# Altium schematic symbol library imx8mnano.SchLib: 59 symbols (part 1 of 2)
Pins are listed as number, name and electrical type; pins without a type are passive.

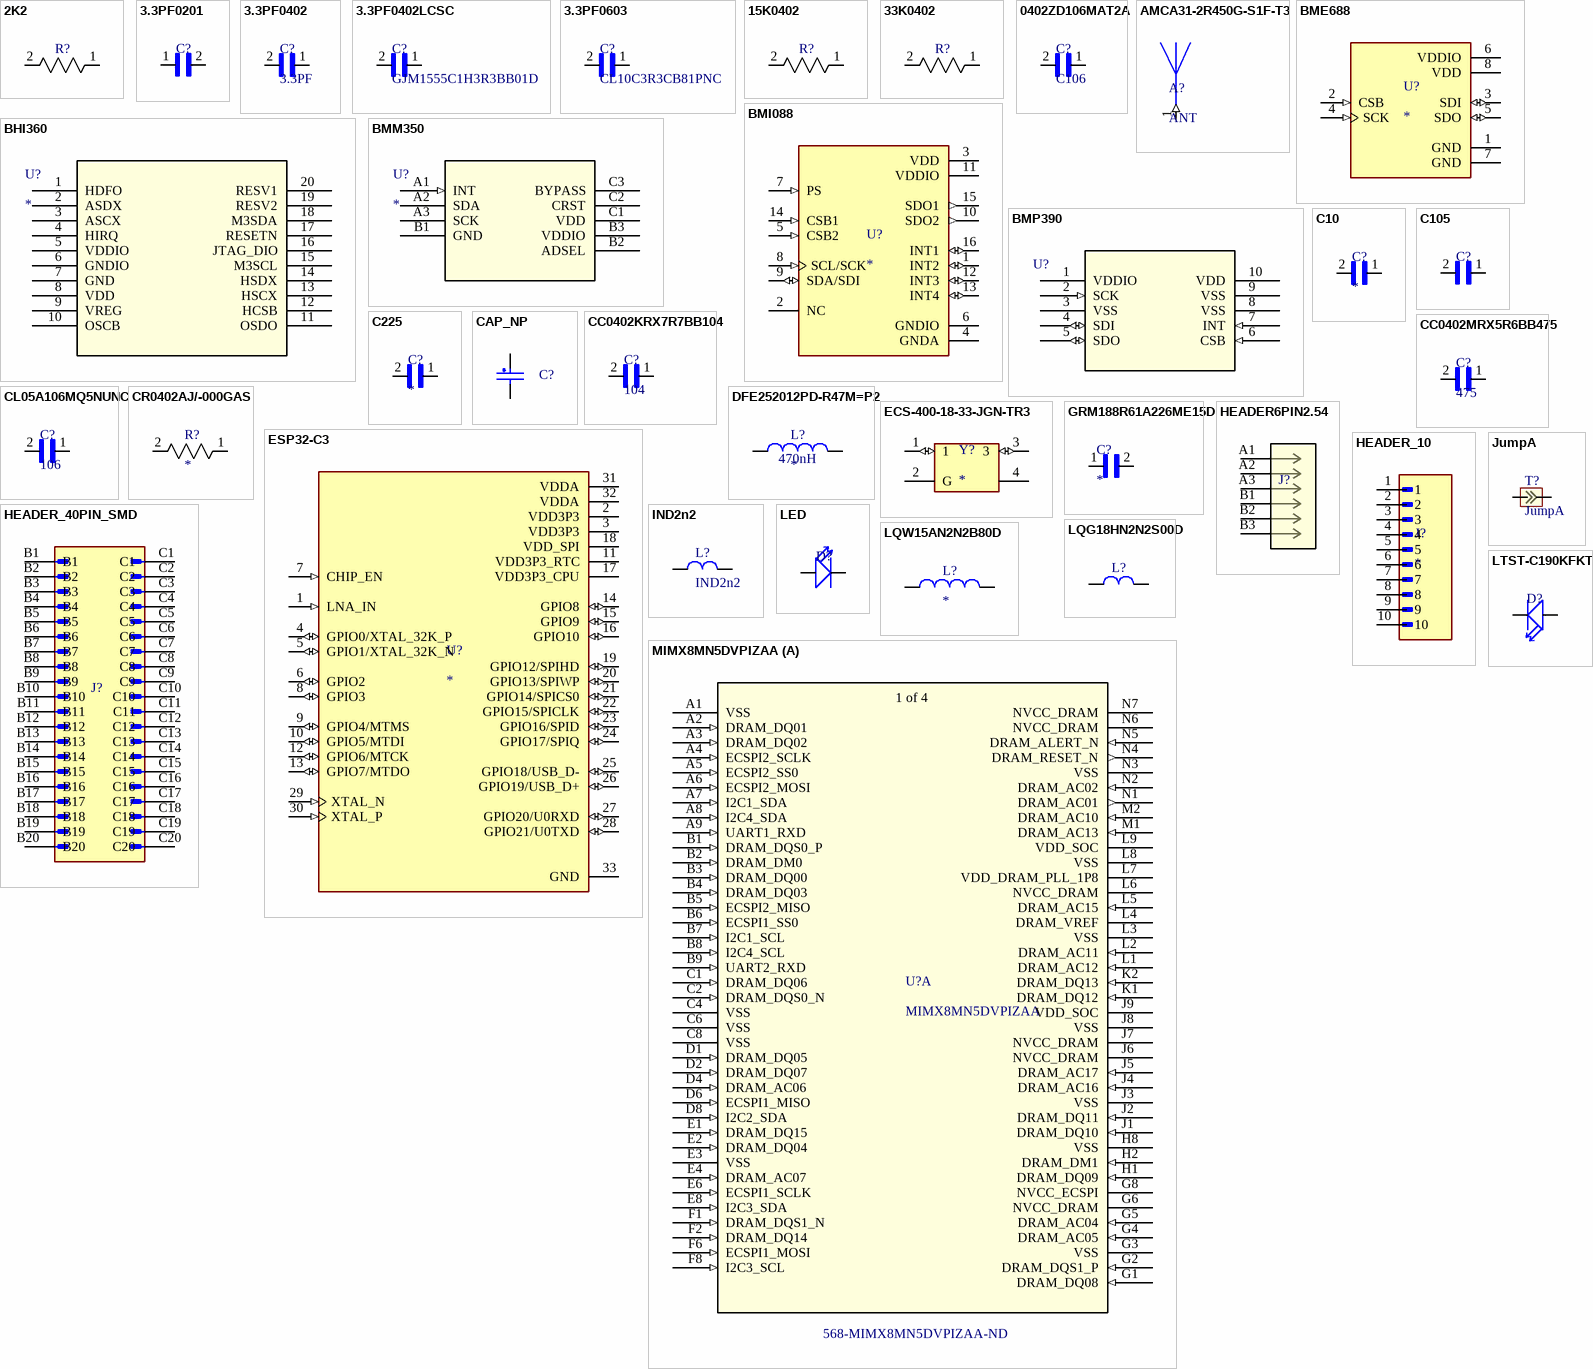
[diagram p0: symbols 2K2 to MIMX8MN5DVPIZAA]

## 2K2
designator R?, comment ERA-2AEB202X  (value not drawn)
Res Thin Film 0402 2K Ohm 0.1% 0.063W ±25ppm/°C Molded SMD Punched Carrier T/R; Manufacturer: Panasonic; Resistance: 2kR; Power Rating: 63mW; Voltage Rating: 25V; Supplier 1: Digikey; Manufacturer Part Number: ERA-2AEB202X; RoHS: Yes; Category: Chip SMD Resistors; Stock 1: 90625; Pricing 1: 1=0.1, 10=0.082, 50=0.0716, 100=0.0677, 500=0.05944, 1000=0.05637, 5000=0.05032 (USD); Mount: Surface Mount; Case/Package: 0402; Case Code (Metric): 1005; Case Code (Imperial): 0402; Contact Plating: Tin; Size Code: 0402; Min Operating Temperature: -55°C; Max Operating Temperature: 155°C; Tolerance: 0.1%; Packaging: Tape and Reel; Package Quantity: 1; Resistor Type: Thin Film,Metal Film; Number of Terminations: 2; Termination: SMD/SMT; Temperature Coefficient: 25ppm/°C; Max Power Dissipation: 63mW; Features: Automotive AEC-Q200; Series: ERA-2A; Resistance Tolerance: 0.1%; Technology: THIN FILM; Length: 1mm; Width: 0.5mm; Height: 0.35mm; Depth: 0.5mm; Radiation Hardening: No; Reach SVHC Compliant: No; Lead Free: Lead Free; RoHS Compliant: Yes; ComponentLink1URL: https://datasheet.ciiva.com/43470/1776116-43470486.pdf?src-supplier=Farnell; ComponentLink1Description: https://datasheet.ciiva.com/43470/1776116-43470486.pdf?src-supplier=Farnell; ComponentLink2URL: https://datasheet.ciiva.com/9116/aoa0000ce26-9116653.pdf?src-supplier=Avnet; ComponentLink2Description: https://datasheet.ciiva.com/9116/aoa0000ce26-9116653.pdf?src-supplier=Avnet; ComponentLink3URL: https://datasheet.ciiva.com/9197/aoa0000ce26-9197535.pdf?src-supplier=Avnet; ComponentLink3Description: https://datasheet.ciiva.com/9197/aoa0000ce26-9197535.pdf?src-supplier=Avnet; Supplier Part Number 1: P2.0KDCCT-ND
footprint RC0402X
pins: 1, 2

## 3.3PF0201
designator C?, comment GRM0335C1E3R3BA01D  (value not drawn)
Multilayer Ceramic Capacitor, 3.3 pF, 25 V, ± 0.1pF, C0G (NP0), 0201 [0603 Metric]; Manufacturer: Murata; Capacitance: 3.3pF; Voltage Rating: 25V; Supplier 1: Digikey; Manufacturer Part Number: GRM0335C1E3R3BA01D; RoHS: Yes; Category: Ceramic Capacitors; Stock 1: 342640; Pricing 1: 1=0.1, 10=0.018, 100=0.0098, 1000=0.00587, 2500=0.00466, 5000=0.0039 (USD); Mount: Surface Mount; Case/Package: 0201; Case Code (Metric): 0603; Case Code (Imperial): 0201; Min Operating Temperature: -55°C; Max Operating Temperature: 125°C; Packaging: Tape and Reel; Package Quantity: 15000; Voltage Rating (DC): 25V; Dielectric: C0G; Termination: SMD/SMT; Series: GRM; Length: 0.024inch; Width: 0.012inch; Height: 0.3mm; Thickness: 0.013inch; RoHS Compliant: Yes; ComponentLink1URL: https://datasheet.ciiva.com/29538/grm0335c1e3r3ba01-01-29538647.pdf?src-supplier=Digikey; ComponentLink1Description: https://datasheet.ciiva.com/29538/grm0335c1e3r3ba01-01-29538647.pdf?src-supplier=Digikey; Supplier Part Number 1: 490-11296-1-ND
footprint CAPC0603X33N
pins: 1, 2

## 3.3PF0402
designator C?, comment 3.3PF
Ceramic Capacitor, Multilayer, Ceramic, 200V, 3.0304% +Tol, 3.0304% -Tol, C0G, 30ppm/Cel TC, 0.0000033uF, Surface...; Manufacturer: Kyocera AVX; Manufacturer Part Number: 600L3R3BT200T4K; Supplier 1: Digikey; RoHS: No; Category: Ceramic Capacitors; Stock 1: 71532; Pricing 1: 1=0.87, 10=0.553, 100=0.3891, 1000=0.30349 (USD); ComponentLink1URL: https://datasheet.octopart.com/600L3R3BT200T4K-KYOCERA-AVX-datasheet-158804398.pdf?src-supplier=Future+Electronics; ComponentLink1Description: https://datasheet.octopart.com/600L3R3BT200T4K-KYOCERA-AVX-datasheet-158804398.pdf?src-supplier=Future+Electronics; Supplier Part Number 1: 478-600L3R3BT200T4KCT-ND
footprint CAPC1005X55N2
pins: 1, 2

## 3.3PF0402LCSC
designator C?, comment GJM1555C1H3R3BB01D
Multilayer Ceramic Capacitors MLCC - SMD/SMT 0402 3.3pF 50Volts C0G +/-0.1pF; Manufacturer: Murata; Manufacturer Part Number: C76906; Voltage Rating: 50V; Temperature Coefficient: 30ppm/°C; Supplier 1: Digikey; RoHS: Yes; Category: Ceramic Capacitors; Stock 1: 2577; Pricing 1: 1=0.12, 10=0.065, 100=0.039, 1000=0.02419, 2500=0.02076, 5000=0.02051 (USD); Mount: Surface Mount; Case/Package: 0402; Number of Pins: 2; Case Code (Metric): 1005; Case Code (Imperial): 0402; Material: Ceramic; Min Operating Temperature: -55°C; Max Operating Temperature: 125°C; Capacitance: 3.3pF; Package Quantity: 1; Packaging: Tape and Reel; Voltage Rating (DC): 50V; Dielectric: C0G; Termination: SMD/SMT; Voltage: 50V; Series: GJM; Construction: Flat; Length: 1mm; Width: 0.5mm; Height: 0.5mm; Thickness: 0.022inch; Depth: 0.5mm; Lead Pitch: 0.3mm; Radiation Hardening: No; Reach SVHC Compliant: No; Lead Free: Lead Free; RoHS Compliant: Yes; ComponentLink1URL: https://datasheet.ciiva.com/11614/product-11614199.pdf?src-supplier=Avnet; ComponentLink1Description: https://datasheet.ciiva.com/11614/product-11614199.pdf?src-supplier=Avnet; ComponentLink2URL: https://datasheet.ciiva.com/8030/1700175-8030120.pdf?src-supplier=Element14; ComponentLink2Description: https://datasheet.ciiva.com/8030/1700175-8030120.pdf?src-supplier=Element14; Supplier Part Number 1: 490-8097-1-ND
footprint RC0402
pins: 1, 2

## 3.3PF0603
designator C?, comment CL10C3R3CB81PNC
Cap Ceramic 3.3pF 50V C0G 0.25pF SMD 0603 125°C Cardboard T/R; Manufacturer: Samsung; Supplier 1: Digikey; Manufacturer Part Number: CL10C3R3CB81PNC; RoHS: Yes; Category: Ceramic Capacitors; Stock 1: 151654; Pricing 1: 1=0.1, 10=0.042, 100=0.0247, 1000=0.01575 (USD); Mount: Surface Mount; Case/Package: 0603; Case Code (Metric): 1608; Case Code (Imperial): 0603; Min Operating Temperature: -55°C; Max Operating Temperature: 125°C; Packaging: Cut Tape; Capacitance: 3.3pF; Voltage Rating: 50V; Series: CL; Length: 0.063inch; Width: 0.031inch; Thickness: 0.035inch; Ratings: AEC-Q200; RoHS Compliant: Yes; ComponentLink1URL: http://www.samsungsem.com/kr/support/product-search/mlcc/CL10C3R3CB81PNC.jsp?src-supplier=Digikey; ComponentLink1Description: http://www.samsungsem.com/kr/support/product-search/mlcc/CL10C3R3CB81PNC.jsp?src-supplier=Digikey; ComponentLink2URL: http://www.samsungsem.com/kr/support/library/product-catalog/mlcc.jsp?src-supplier=Digikey; ComponentLink2Description: http://www.samsungsem.com/kr/support/library/product-catalog/mlcc.jsp?src-supplier=Digikey; Supplier Part Number 1: 1276-6549-1-ND
pins: 1, 2

## 15K0402
designator R?  (value not drawn)
Res Thin Film 0402 15K Ohm 0.1% 0.063W(1/16W) ±25ppm/C Pad SMD T/R; Manufacturer: Yageo; Manufacturer Part Number: RT0402BRD0715KL; Voltage Rating: 50V; Resistance: 15kR; Power Rating: 62.5mW; Max Power Dissipation: 63mW; Temperature Coefficient: 25ppm/°C; Supplier 1: Digikey; RoHS: Yes; Category: Chip SMD Resistors; Stock 1: 36293; Pricing 1: 1=0.17, 10=0.116, 50=0.1, 100=0.0877, 500=0.06834, 1000=0.06018, 5000=0.04488 (USD); Case/Package: 0402; Case Code (Imperial): 0402; Case Code (Metric): 1005; Size Code: 0402; Min Operating Temperature: -55°C; Max Operating Temperature: 155°C; Tolerance: 0.1%; Number of Terminations: 2; Termination: SMD/SMT; Voltage Rating (DC): 50V; Features: Moisture Resistant; Packaging: Tape and Reel; Package Quantity: 10000; Series: RT; Length: 0.039inch; Width: 0.02inch; Height: 0.014inch; Lead Free: Lead Free; RoHS Compliant: Yes; ComponentLink1URL: https://datasheet.ciiva.com/2582/pyu-rt-1-to-0-05-rohs-l-5-2582151.pdf?src-supplier=Digikey; ComponentLink1Description: https://datasheet.ciiva.com/2582/pyu-rt-1-to-0-05-rohs-l-5-2582151.pdf?src-supplier=Digikey; ComponentLink2URL: https://datasheet.ciiva.com/12723/pyu-rt-1-to-0-05-rohs-l-4-12723782.pdf?src-supplier=Mouser; ComponentLink2Description: https://datasheet.ciiva.com/12723/pyu-rt-1-to-0-05-rohs-l-4-12723782.pdf?src-supplier=Mouser; Supplier Part Number 1: YAG2302CT-ND
footprint RC0402X
pins: 1, 2

## 33K0402
designator R?  (value not drawn)
SMD Chip Resistor, 33 Kohm, ½ 5%, 62.5 Mw, 0402 [1005 Metric], Thick Film, General Purpose; Manufacturer: Yageo; Manufacturer Part Number: C138003; Resistance: 33kR; Power Rating: 62.5mW; Voltage Rating: 50V; Temperature Coefficient: 100ppm/°C; Max Power Dissipation: 63mW; Supplier 1: Digikey; RoHS: Yes; Category: Chip SMD Resistors; Stock 1: 242382; Pricing 1: 1=0.1, 10=0.007, 50=0.0066, 100=0.0061, 500=0.0051, 1000=0.00408, 5000=0.00306 (USD); Case/Package: 0402; Case Code (Imperial): 0402; Case Code (Metric): 1005; Min Operating Temperature: -55°C; Max Operating Temperature: 155°C; Tolerance: 5%; Packaging: Tape and Reel; Termination: SMD/SMT; Resistor Type: Thick Film; Number of Terminations: 2; Features: Moisture Resistant; Series: RC; Resistance Tolerance: 5%; Voltage Rating (AC): 50V; Working Voltage: 50V; Construction: Rectangular; Technology: THICK FILM; Length: 1mm; Depth: 0.5mm; Reach SVHC Compliant: No; Lead Free: Lead Free; RoHS Compliant: Yes; Military Standard: Not; ComponentLink1URL: https://datasheet.ciiva.com/16740/pyu-rc0402-51-rohs-l-6-r-16740743.pdf?src-supplier=Future+Electronics; ComponentLink1Description: https://datasheet.ciiva.com/16740/pyu-rc0402-51-rohs-l-6-r-16740743.pdf?src-supplier=Future+Electronics; ComponentLink2URL: https://datasheet.ciiva.com/7983/1018594-7983578.pdf?src-supplier=Element14; ComponentLink2Description: https://datasheet.ciiva.com/7983/1018594-7983578.pdf?src-supplier=Element14; ComponentLink3URL: https://datasheet.ciiva.com/7850/1018594-7850198.pdf?src-supplier=Element14; ComponentLink3Description: https://datasheet.ciiva.com/7850/1018594-7850198.pdf?src-supplier=Element14; ComponentLink4URL: https://datasheet.ciiva.com/7850/1018594-7850199.pdf?src-supplier=Element14; ComponentLink4Description: https://datasheet.ciiva.com/7850/1018594-7850199.pdf?src-supplier=Element14; ComponentLink5URL: https://datasheet.ciiva.com/5558/pyu-rc0402-51-rohs-l-6-r-5558154.pdf?src-supplier=Mouser; ComponentLink5Description: https://datasheet.ciiva.com/5558/pyu-rc0402-51-rohs-l-6-r-5558154.pdf?src-supplier=Mouser; Supplier Part Number 1: 311-33KJRCT-ND
footprint RC0402X
pins: 1, 2

## 0402ZD106MAT2A
designator C?, comment C106
Multilayer Ceramic Chip Capacitor 0402 Size 10uF 10V X5R ±20% Tolerance SMD T/R; Manufacturer: Kyocera AVX; Manufacturer Part Number: 0402ZD106MAT2A; Material: 4241ConductorMaterial; Supplier 1: Digikey; RoHS: Yes; Category: Ceramic Capacitors; Stock 1: 61749; Pricing 1: 1=0.36, 10=0.212, 100=0.1271, 1000=0.0834, 2500=0.07583 (USD); Mount: Surface Mount; Case/Package: 0402; Case Code (Imperial): 0402; Case Code (Metric): 1005; Min Operating Temperature: -55°C; Max Operating Temperature: 85°C; Series: -; Packaging: Cut Tape; Dielectric: X5R; Voltage Rating (DC): 10V; Capacitance: 10uF; Tolerance: 20%; Voltage Rating: 10V; Height: 710um; RoHS Compliant: Yes; ComponentLink1URL: http://catalogs.avx.com/SurfaceMount.pdf?src-supplier=Digikey; ComponentLink1Description: http://catalogs.avx.com/SurfaceMount.pdf?src-supplier=Digikey; ComponentLink2URL: http://datasheets.avx.com/cx5r.pdf?src-supplier=Digikey; ComponentLink2Description: http://datasheets.avx.com/cx5r.pdf?src-supplier=Digikey; ComponentLink3URL: https://datasheet.octopart.com/0402ZD106MAT2A-KYOCERA-AVX-datasheet-155912759.pdf?src-supplier=Future+Electronics; ComponentLink3Description: https://datasheet.octopart.com/0402ZD106MAT2A-KYOCERA-AVX-datasheet-155912759.pdf?src-supplier=Future+Electronics; ComponentLink4URL: https://www.farnell.com/datasheets/2260752.pdf?src-supplier=Newark; ComponentLink4Description: https://www.farnell.com/datasheets/2260752.pdf?src-supplier=Newark; ComponentLink5URL: https://datasheet.octopart.com/0402ZD106MAT2A-KYOCERA-AVX-datasheet-155912759.pdf?src-supplier=TME; ComponentLink5Description: https://datasheet.octopart.com/0402ZD106MAT2A-KYOCERA-AVX-datasheet-155912759.pdf?src-supplier=TME; Supplier Part Number 1: 478-KGM05CR51A106MHCT-ND
footprint RC0402
pins: 1, 2

## AMCA31-2R450G-S1F-T3
designator A?, comment ANT
Chip Dielectric Antenna; 1dBi; 2450MHz; T/R | Abracon AMCA31-2R450G-S1F-T3; Impedance: 50R; Frequency: 2.45GHz; Bandwidth: 90MHz; Power Rating: 3W; Number of Bands: 1; VSWR: 2; Supplier 1: Digikey; Manufacturer: Abracon; Manufacturer Part Number: AMCA31-2R450G-S1F-T3; RoHS: Yes; Category: RF Antennas; Stock 1: 40750; Pricing 1: 1=0.31, 10=0.217, 25=0.1924, 100=0.1875, 250=0.18412, 500=0.17502, 1000=0.15693 (USD); Mount: Surface Mount; Case/Package: SMD/SMT; Packaging: Tape and Reel; Package Quantity: 3000; Max Power Dissipation: 3W; Termination: Solder; Max Frequency: 2.45GHz; Series: AMCA; Height: 0.047inch; RoHS Compliant: Yes; ComponentLink1URL: https://datasheet.ciiva.com/29647/amca31-2r450g-s1f-t-29647350.pdf?src-supplier=Digikey; ComponentLink1Description: https://datasheet.ciiva.com/29647/amca31-2r450g-s1f-t-29647350.pdf?src-supplier=Digikey; Supplier Part Number 1: 535-14095-1-ND
footprint XDCR_AMCA31-2R450G-S1F-T3
pins: 1 (in)

## BHI360
designator U?
No Description Available; Mfr_Name: Bosch Sensortec; Type: Motion Sensors; RefDes: RefDes
footprint LGA20_2p5X3X0p95_BOS
pins: 1 HDFO, 2 ASDX, 3 ASCX, 4 HIRQ, 5 VDDIO (power), 6 GNDIO (power), 7 GND (power), 8 VDD (power), 9 VREG, 10 OSCB, 11 OSDO, 12 HCSB, 13 HSCX, 14 HSDX, 15 M3SCL, 16 JTAG_DIO, 17 RESETN, 18 M3SDA, 19 RESV2, 20 RESV1

## BME688
designator U?
Gas sensor measuring relative humidity, barometric pressure, ambient temperature and gas (VOC); MP: BME688; Package: None; Price: None; Availability: Unavailable; Value: *
footprint IC_BME688
pins: 1 GND (power), 2 CSB (in), 3 SDI (io), 4 SCK (in), 5 SDO (io), 6 VDDIO (power), 7 GND (power), 8 VDD (power)

## BMI088
designator U?
High-performance 6-axis inertial sensor (accelerometer + gyroscope) <a href="https://pricing.snapeda.com/parts/BMI088/Bosch%20Sensortec/view-part?ref=eda">Check prices</a>; MP: BMI088; Package: None; Value: *; Availability: Unavailable; Price: None
footprint PQFN50P450X300X100-16N
pins: 1 INT2 (io), 2 NC, 3 VDD (power), 4 GNDA (power), 5 CSB2 (in), 6 GNDIO (power), 7 PS (in), 8 SCL/SCK (in), 9 SDA/SDI (io), 10 SDO2 (out), 11 VDDIO (power), 12 INT3 (io), 13 INT4 (io), 14 CSB1 (in), 15 SDO1 (out), 16 INT1 (io)

## BMM350
designator U?
No Description Available; Mfr_Name: Bosch Sensortec; Type: Magnetic Sensors; RefDes: RefDes
footprint BGA9_BMM350_BOS
pins: A1 INT (in), A2 SDA, A3 SCK, B1 GND (power), B2 ADSEL, B3 VDDIO (power), C1 VDD (power), C2 CRST, C3 BYPASS (power)

## BMP390
designator U?  (value not drawn)
No Description Available; Mfr_Name: Bosch Sensortec; RefDes: RefDes; Type: Type
footprint 10LGA_2X2X0p75_BOS
pins: 1 VDDIO (power), 2 SCK (in), 3 VSS (power), 4 SDI (io), 5 SDO (io), 6 CSB (in), 7 INT (in), 8 VSS (power), 9 VSS (power), 10 VDD (power)

## C10
designator C?
0402 10 pF 50 V ±5 % Tolerance NP0 SMT Multilayer Ceramic Capacitor; Manufacturer: Yageo; Manufacturer Part Number: CC0402JRNPO9BN100; Dielectric Material: 4241ConductorMaterial; Capacitance: 10pF; Tolerance: 5%; Voltage Rating: 50V; Dielectric: C0G; Temperature Coefficient: 30ppm/°C; Insulation Resistance: 100GR; Supplier 1: Digikey; RoHS: Yes; Category: Ceramic Capacitors; Stock 1: 1109319; Pricing 1: 1=0.1, 10=0.024, 100=0.0133, 1000=0.00812, 2500=0.00685, 5000=0.00609 (USD); Mount: Surface Mount; Case/Package: 0402; Number of Pins: 2; Case Code (Metric): 1005; Case Code (Imperial): 0402; Min Operating Temperature: -55°C; Max Operating Temperature: 125°C; Packaging: Tape and Reel; Voltage Rating (DC): 50V; Package Quantity: 1; Termination: SMD/SMT; Voltage: 50V; Series: CC; Voltage Rating (AC): 50V; Length: 1mm; Width: 0.02inch; Height: 0.5mm; Thickness: 0.022inch; Depth: 0.5mm; Radiation Hardening: No; Reach SVHC Compliant: No; Lead Free: Lead Free; RoHS Compliant: Yes; Halogen Free: 5694HalogenFree; ComponentLink1URL: https://datasheet.ciiva.com/11786/0900766b8079c870-11786158.pdf?src-supplier=Rs; ComponentLink1Description: https://datasheet.ciiva.com/11786/0900766b8079c870-11786158.pdf?src-supplier=Rs; ComponentLink2URL: https://datasheet.ciiva.com/143/mlccorderingcode-143992.pdf?src-supplier=Digikey; ComponentLink2Description: https://datasheet.ciiva.com/143/mlccorderingcode-143992.pdf?src-supplier=Digikey; ComponentLink3URL: https://datasheet.ciiva.com/143/mlccorderingcode-143993.pdf?src-supplier=Digikey; ComponentLink3Description: https://datasheet.ciiva.com/143/mlccorderingcode-143993.pdf?src-supplier=Digikey; ComponentLink4URL: https://datasheet.ciiva.com/143/mlccorderingcode-143994.pdf?src-supplier=Digikey; ComponentLink4Description: https://datasheet.ciiva.com/143/mlccorderingcode-143994.pdf?src-supplier=Digikey; ComponentLink5URL: https://datasheet.ciiva.com/8033/1443161-8033591.pdf?src-supplier=Element14; ComponentLink5Description: https://datasheet.ciiva.com/8033/1443161-8033591.pdf?src-supplier=Element14; ComponentLink6URL: https://datasheet.ciiva.com/8033/1443161-8033593.pdf?src-supplier=Element14; ComponentLink6Description: https://datasheet.ciiva.com/8033/1443161-8033593.pdf?src-supplier=Element14; ComponentLink7URL: https://datasheet.ciiva.com/8033/1443161-8033596.pdf?src-supplier=Element14; ComponentLink7Description: https://datasheet.ciiva.com/8033/1443161-8033596.pdf?src-supplier=Element14; ComponentLink8URL: https://datasheet.ciiva.com/28450/1443161-28450213.pdf?src-supplier=Element14; ComponentLink8Description: https://datasheet.ciiva.com/28450/1443161-28450213.pdf?src-supplier=Element14; ComponentLink9URL: https://datasheet.ciiva.com/5427/upy-gp-np0-16v-to-50v-8-5427741.pdf?src-supplier=Mouser; ComponentLink9Description: https://datasheet.ciiva.com/5427/upy-gp-np0-16v-to-50v-8-5427741.pdf?src-supplier=Mouser; Supplier Part Number 1: 311-1014-1-ND
footprint RC0402
pins: 1, 2

## C105
designator C?, comment CC0402KRX5R5BB105  (value not drawn)
Multilayer Ceramic Capacitor, 1 uF, 100 V, ï¿½ 10%, X7R, 0402 [1005 Metric]; Manufacturer: Yageo; Capacitance: 1uF; Voltage Rating: 6.3V; Dielectric: X5R; Temperature Coefficient: 30ppm/°C; Supplier 1: Digikey; Manufacturer Part Number: CC0402KRX5R5BB105; RoHS: Yes; Category: Ceramic Capacitors; Stock 1: 21136934; Pricing 1: 1=0.1, 10=0.054, 100=0.0318, 1000=0.02066, 2500=0.01646, 5000=0.01625 (USD); Mount: Surface Mount; Case/Package: 0402; Number of Pins: 2; Case Code (Metric): 1005; Case Code (Imperial): 0402; Dielectric Material: Ceramic; Material: Ceramic; Min Operating Temperature: -55°C; Max Operating Temperature: 85°C; Tolerance: 10%; Voltage Rating (DC): 6.3V; Packaging: Tape and Reel; Termination: SMD/SMT; Series: CC; Voltage Rating (AC): 6.3V; Length: 1mm; Width: 0.5mm; Height: 0.5mm; Depth: 0.5mm; Radiation Hardening: No; Reach SVHC Compliant: No; Lead Free: Lead Free; RoHS Compliant: Yes; Halogen Free: 5694HalogenFree; ComponentLink1URL: https://datasheet.ciiva.com/5789/70765-5789520.pdf?src-supplier=Farnell; ComponentLink1Description: https://datasheet.ciiva.com/5789/70765-5789520.pdf?src-supplier=Farnell; ComponentLink2URL: https://datasheet.ciiva.com/176/mlccorderingcode-176609.pdf?src-supplier=Digikey; ComponentLink2Description: https://datasheet.ciiva.com/176/mlccorderingcode-176609.pdf?src-supplier=Digikey; ComponentLink3URL: https://datasheet.ciiva.com/176/mlccorderingcode-176610.pdf?src-supplier=Digikey; ComponentLink3Description: https://datasheet.ciiva.com/176/mlccorderingcode-176610.pdf?src-supplier=Digikey; ComponentLink4URL: https://datasheet.ciiva.com/176/mlccorderingcode-176611.pdf?src-supplier=Digikey; ComponentLink4Description: https://datasheet.ciiva.com/176/mlccorderingcode-176611.pdf?src-supplier=Digikey; ComponentLink5URL: https://datasheet.ciiva.com/11464/upy-gphc-x5r-4v-to-50v-12-11464863.pdf?src-supplier=Avnet; ComponentLink5Description: https://datasheet.ciiva.com/11464/upy-gphc-x5r-4v-to-50v-12-11464863.pdf?src-supplier=Avnet; ComponentLink6URL: https://datasheet.ciiva.com/8033/1525783-8033643.pdf?src-supplier=Element14; ComponentLink6Description: https://datasheet.ciiva.com/8033/1525783-8033643.pdf?src-supplier=Element14; ComponentLink7URL: https://datasheet.ciiva.com/8033/1525783-8033644.pdf?src-supplier=Element14; ComponentLink7Description: https://datasheet.ciiva.com/8033/1525783-8033644.pdf?src-supplier=Element14; ComponentLink8URL: https://datasheet.ciiva.com/8033/70765-8033646.pdf?src-supplier=Element14; ComponentLink8Description: https://datasheet.ciiva.com/8033/70765-8033646.pdf?src-supplier=Element14; ComponentLink9URL: https://datasheet.ciiva.com/28450/1359354-28450285.pdf?src-supplier=Element14; ComponentLink9Description: https://datasheet.ciiva.com/28450/1359354-28450285.pdf?src-supplier=Element14; Supplier Part Number 1: 311-1438-1-ND
footprint RC0402
pins: 1, 2

## C225
designator C?
Multilayer Ceramic Capacitor, 2.2 uF, 6.3 V, ï¿½ 20%, X5R, 0402 [1005 Metric]; Manufacturer: Samsung; Manufacturer Part Number: CL05A225MQ5NNNC; Capacitance: 2.2uF; Voltage Rating: 6.3V; Supplier 1: Digikey; RoHS: Yes; Category: Ceramic Capacitors; Stock 1: 23507; Pricing 1: 1=0.08, 10=0.011, 100=0.0064, 1000=0.0048, 2500=0.0032 (USD); Mount: Surface Mount; Case/Package: 0402; Case Code (Metric): 1005; Case Code (Imperial): 0402; Material: Ceramic; Min Operating Temperature: -55°C; Max Operating Temperature: 85°C; Packaging: Tape and Reel; Tolerance: 20%; Dielectric: X5R; Series: CL; Construction: Flat; Voltage Rating (DC): 6.3V; Length: 1mm; Height: 0.5mm; Depth: 0.5mm; Radiation Hardening: No; RoHS Compliant: Yes; ComponentLink1URL: https://datasheet.ciiva.com/25798/cl05a225mq5nnnc-25798545.pdf?src-supplier=Digikey; ComponentLink1Description: https://datasheet.ciiva.com/25798/cl05a225mq5nnnc-25798545.pdf?src-supplier=Digikey; ComponentLink2URL: https://datasheet.ciiva.com/16437/cl05a225mq5nnnc-16437362.pdf?src-supplier=Future+Electronics; ComponentLink2Description: https://datasheet.ciiva.com/16437/cl05a225mq5nnnc-16437362.pdf?src-supplier=Future+Electronics; Supplier Part Number 1: 1276-1469-1-ND
footprint RC0402X
pins: 1, 2

## CAP_NP
designator C?
CLASS: DISCRETE
footprint RC0402
pins: 1, 2

## CC0402KRX7R7BB104
designator C?, comment 104
Multilayer Ceramic Capacitor, 0.1 uF, 16 V, ï¿½ 10%, X7R, 0402 [1005 Metric]; Manufacturer: Yageo; Manufacturer Part Number: CC0402KRX7R7BB104; Material: 4241ConductorMaterial; Capacitance: 100nF; Voltage Rating: 16V; Temperature Coefficient: 30ppm/°C; Supplier 1: Digikey; RoHS: Yes; Category: Ceramic Capacitors; Stock 1: 15609894; Pricing 1: 1=0.1, 10=0.024, 50=0.0164, 100=0.0139, 500=0.0098, 1000=0.00852, 2500=0.00718, 5000=0.00636 (USD); Mount: Surface Mount; Case/Package: 0402; Number of Pins: 2; Case Code (Metric): 1005; Case Code (Imperial): 0402; Min Operating Temperature: -55°C; Max Operating Temperature: 125°C; Tolerance: 10%; Voltage Rating (DC): 16V; Packaging: Tape and Reel; Package Quantity: 1; Dielectric: X7R; Termination: SMD/SMT; Voltage: 16V; Series: CC; Voltage Rating (AC): 16V; Length: 1mm; Width: 0.02inch; Height: 0.5mm; Thickness: 0.022inch; Depth: 0.5mm; Radiation Hardening: No; Reach SVHC Compliant: No; RoHS Compliant: Yes; Halogen Free: 5694HalogenFree; Lead Free: 5697LeadFree; ComponentLink1URL: https://datasheet.ciiva.com/11788/0900766b80ce67ed-11788364.pdf?src-supplier=Rs; ComponentLink1Description: https://datasheet.ciiva.com/11788/0900766b80ce67ed-11788364.pdf?src-supplier=Rs; ComponentLink2URL: https://datasheet.ciiva.com/7978/1489800-7978111.pdf?src-supplier=Element14; ComponentLink2Description: https://datasheet.ciiva.com/7978/1489800-7978111.pdf?src-supplier=Element14; ComponentLink3URL: https://datasheet.ciiva.com/161/mlccorderingcode-161545.pdf?src-supplier=Digikey; ComponentLink3Description: https://datasheet.ciiva.com/161/mlccorderingcode-161545.pdf?src-supplier=Digikey; ComponentLink4URL: https://datasheet.ciiva.com/161/mlccorderingcode-161544.pdf?src-supplier=Digikey; ComponentLink4Description: https://datasheet.ciiva.com/161/mlccorderingcode-161544.pdf?src-supplier=Digikey; ComponentLink5URL: https://datasheet.ciiva.com/161/mlccorderingcode-161546.pdf?src-supplier=Digikey; ComponentLink5Description: https://datasheet.ciiva.com/161/mlccorderingcode-161546.pdf?src-supplier=Digikey; ComponentLink6URL: https://datasheet.ciiva.com/8033/1734573-8033661.pdf?src-supplier=Element14; ComponentLink6Description: https://datasheet.ciiva.com/8033/1734573-8033661.pdf?src-supplier=Element14; ComponentLink7URL: https://datasheet.ciiva.com/11587/upy-gphc-x7r-6-3v-to-50v-8-11587305.pdf?src-supplier=Avnet; ComponentLink7Description: https://datasheet.ciiva.com/11587/upy-gphc-x7r-6-3v-to-50v-8-11587305.pdf?src-supplier=Avnet; LCSC: C60474; Supplier Part Number 1: 311-1338-1-ND
footprint CAPC1005X55N2
pins: 1, 2

## CC0402MRX5R6BB475
designator C?, comment 475
Multilayer Ceramic Capacitor, 4.7 uF, 50 V, ï¿½ 10%, X5R, 0402 [1005 Metric]; Manufacturer: Yageo; Manufacturer Part Number: CC0402MRX5R6BB475; Capacitance: 4.7uF; Voltage Rating: 10V; Tolerance: 20%; Temperature Coefficient: 30ppm/°C; Supplier 1: Digikey; RoHS: Yes; Category: Ceramic Capacitors; Stock 1: 1209136; Pricing 1: 1=0.1, 10=0.053, 50=0.0364, 100=0.0313, 500=0.0227, 1000=0.02003, 2500=0.01719, 5000=0.01547 (USD); Mount: Surface Mount; Case/Package: 0402; Case Code (Metric): 1005; Case Code (Imperial): 0402; Weight: 2.3E-05oz; Material: Ceramic; Min Operating Temperature: -55°C; Max Operating Temperature: 85°C; Packaging: Tape and Reel; Dielectric: X5R; Termination: SMD/SMT; Voltage Rating (DC): 10V; Package Quantity: 10000; Series: CC; Length: 0.039inch; Width: 0.02inch; Height: 0.5mm; Thickness: 0.022inch; Lead Free: Lead Free; Halogen Free: Halogen Free; RoHS Compliant: Yes; ComponentLink1URL: http://www.mouser.com/ds/2/447/Yageo_UPY-GP_NP0_16V-to-50V_9-358835.pdf?src-supplier=Mouser; ComponentLink1Description: http://www.mouser.com/ds/2/447/Yageo_UPY-GP_NP0_16V-to-50V_9-358835.pdf?src-supplier=Mouser; ComponentLink2URL: http://www.yageo.com/documents/recent/UPY-GPHC_X5R_4V-to-50V_25.pdf?src-supplier=Digikey; ComponentLink2Description: http://www.yageo.com/documents/recent/UPY-GPHC_X5R_4V-to-50V_25.pdf?src-supplier=Digikey; ComponentLink3URL: http://www.yageo.com/exep/pages/download/literatures/ProductSelectionGuide%202014_Final_2.pdf?src-supplier=Digikey; ComponentLink3Description: http://www.yageo.com/exep/pages/download/literatures/ProductSelectionGuide%202014_Final_2.pdf?src-supplier=Digikey; ComponentLink4URL: https://datasheet.octopart.com/CC0402MRX5R6BB475-Yageo-datasheet-140260304.pdf?src-supplier=Newark; ComponentLink4Description: https://datasheet.octopart.com/CC0402MRX5R6BB475-Yageo-datasheet-140260304.pdf?src-supplier=Newark; LCSC: C469468; Supplier Part Number 1: 311-1734-1-ND
footprint CAPC1005X55N2
pins: 1, 2

## CL05A106MQ5NUNC
designator C?, comment 106
Multilayer Ceramic Capacitor, 10 uF, 6.3 V, ï¿½ 20%, X5R, 0402 [1005 Metric]; Manufacturer: Samsung; Manufacturer Part Number: CL05A106MQ5NUNC; Capacitance: 10uF; Voltage Rating: 6.3V; Supplier 1: Avnet; RoHS: Yes; Category: Ceramic Capacitors; Stock 1: 540000; Pricing 1: 10000=0.02499, 20000=0.02486, 40000=0.02474, 60000=0.02461, 80000=0.02448 (USD); Mount: Surface Mount; Case/Package: 0402; Case Code (Metric): 1005; Case Code (Imperial): 0402; Min Operating Temperature: -55°C; Max Operating Temperature: 85°C; Packaging: Tape and Reel; Tolerance: 20%; Package Quantity: 1; Dielectric: X5R; Series: CL; Construction: Flat; Length: 1mm; Width: 0.02inch; Height: 0.5mm; Thickness: 0.028inch; Depth: 0.5mm; Radiation Hardening: No; RoHS Compliant: Yes; ComponentLink1URL: https://datasheet.ciiva.com/16437/cl05a106mq5nunc-16437356.pdf?src-supplier=Future+Electronics; ComponentLink1Description: https://datasheet.ciiva.com/16437/cl05a106mq5nunc-16437356.pdf?src-supplier=Future+Electronics; ComponentLink2URL: https://datasheet.ciiva.com/26877/getdatasheetpartid-355289-26877841.pdf?src-supplier=Verical; ComponentLink2Description: https://datasheet.ciiva.com/26877/getdatasheetpartid-355289-26877841.pdf?src-supplier=Verical; Supplier Part Number 1: CL05A106MQ5NUNC
footprint CL05A106MQ5NUNC
pins: 1, 2

## CR0402AJ/-000GAS
designator R?
Zero Ohm Resistor, Jumper, 0402 [1005 Metric], Thick Film, 63 mW, 1 A, Surface Mount; Manufacturer: Bourns; Manufacturer Part Number: CR0402AJ/-000GAS; Resistance: 0R; Max Power Dissipation: 63mW; Temperature Coefficient: 500ppm/°C; Voltage Rating (DC): 50V; Supplier 1: Digikey; RoHS: Yes; Category: Chip SMD Resistors; Stock 1: 124642; Pricing 1: 1=0.1, 10=0.024, 50=0.0144, 100=0.0117, 500=0.00752, 1000=0.00635, 5000=0.00451 (USD); Case/Package: 0402; Case Code (Imperial): 0402; Case Code (Metric): 1005; Min Operating Temperature: -55°C; Max Operating Temperature: 155°C; Features: Moisture Resistant,Automotive AEC-Q200,Anti-Sulfur; Series: CR0402A-AS; Packaging: Cut Tape; Number of Terminations: 2; Power Rating: 63mW; Ratings: AEC-Q200; ComponentLink1URL: https://www.bourns.com/docs/product-datasheets/crxxxxa-as.pdf?src-supplier=Digikey; ComponentLink1Description: https://www.bourns.com/docs/product-datasheets/crxxxxa-as.pdf?src-supplier=Digikey; Supplier Part Number 1: CR0402AJ/-000GASCT-ND
footprint RC0402X
pins: 1, 2

## DFE252012PD-R47M=P2
designator L?  Inductance: 470nH
Inductor Power Shielded Wirewound 0.47uH 20% 1MHz Metal 4A 0.027Ohm DCR 1008 Automotive T/R; Manufacturer: Murata; Manufacturer Part Number: DFE252012PD-R47M=P2; Saturation Current: 5.2A; Series Resistance: 27mR; Supplier 1: Digikey; RoHS: Yes; Category: Fixed Inductors; Stock 1: 54000; Pricing 1: 3000=0.20501, 6000=0.19333, 9000=0.18681, 15000=0.17892, 21000=0.17392, 30000=0.16876 (USD); Min Operating Temperature: -40°C; Max Operating Temperature: 125°C; Inductance Tolerance: 20%; RMS Current (Irms): 4A; Test Frequency: 1MHz; Tolerance: 20%; RoHS Compliant: Yes; ComponentLink1URL: http://www.farnell.com/datasheets/2616814.pdf?src-supplier=Farnell; ComponentLink1Description: http://www.farnell.com/datasheets/2616814.pdf?src-supplier=Farnell; ComponentLink2URL: https://search.murata.co.jp/Ceramy/image/img/P02/J(E)TE243A-9102.pdf?src-supplier=Digikey; ComponentLink2Description: https://search.murata.co.jp/Ceramy/image/img/P02/J(E)TE243A-9102.pdf?src-supplier=Digikey; ComponentLink3URL: http://www.farnell.com/datasheets/2616814.pdf?src-supplier=Newark; ComponentLink3Description: http://www.farnell.com/datasheets/2616814.pdf?src-supplier=Newark; Supplier Part Number 1: 490-DFE252012PD-R47M=P2TR-ND; Current Rating: 4A; Height: 1.2mm
footprint IND-SMD_L2.5-W2.0_SWPA252012S
pins: 1, 2

## ECS-400-18-33-JGN-TR3
designator Y?
Manufacturer Part Number: C5765977; MP: ECS-400-18-33-JGN-TR3; MF: {'manufacturer': u'ECS Inc.'}; Value: *; Price: None; Package: None; Availability: Unavailable
footprint XTAL_ECS-400-18-33-JGN-TR3
pins: 1 (io), 2 G (power), 3 (io), 4 G (power)

## ESP32-C3
designator U?
WiFi Modules (802.11) (Engineering Samples Only) SMD IC ESP32-C3, RISC-V single-core MCU, 2.4G Wi-Fi & BLE 5.0 combo, QFN 32-pin, 5*5 mm, 40 ~ 105C; Manufacturer Part Number: 1904-ESP32-C3TR-ND; MF: Espressif Systems; SnapEDA_Link: https://www.snapeda.com/parts/ESP32-C3/Espressif+Systems/view-part/?ref=snap; Package: VFQFN-32 Espressif Systems; Value: *; MP: ESP32-C3; Check_prices: https://www.snapeda.com/parts/ESP32-C3/Espressif+Systems/view-part/?ref=eda
footprint QFN50P500X500X90-33N
pins: 1 LNA_IN (in), 2 VDD3P3 (power), 3 VDD3P3 (power), 4 GPIO0/XTAL_32K_P (io), 5 GPIO1/XTAL_32K_N (io), 6 GPIO2 (io), 7 CHIP_EN (in), 8 GPIO3 (io), 9 GPIO4/MTMS (io), 10 GPIO5/MTDI (io), 11 VDD3P3_RTC (power), 12 GPIO6/MTCK (io), 13 GPIO7/MTDO (io), 14 GPIO8 (io), 15 GPIO9 (io), 16 GPIO10 (io), 17 VDD3P3_CPU (power), 18 VDD_SPI (power), 19 GPIO12/SPIHD (io), 20 GPIO13/SPIWP (io), 21 GPIO14/SPICS0 (io), 22 GPIO15/SPICLK (io), 23 GPIO16/SPID (io), 24 GPIO17/SPIQ (io), 25 GPIO18/USB_D- (io), 26 GPIO19/USB_D+ (io), 27 GPIO20/U0RXD (io), 28 GPIO21/U0TXD (io), 29 XTAL_N (in), 30 XTAL_P (in), 31 VDDA (power), 32 VDDA (power), 33 GND (power)

## GRM188R61A226ME15D
designator C?
SMD Capacitor X5R(EIA) with Capacitance: 22uF Tol. 20%. Rated Voltage: 10Vdc; MP: GRM188R61A226ME15D; Value: *; Availability: Unavailable; Package: None; Price: None
footprint CAPC1608X100N
pins: 1, 2

## HEADER6PIN2.54
designator J?  (value not drawn)
Conn Unshrouded Header HDR 6 POS 2.54mm Solder ST Top Entry SMD C-Grid Bag; Manufacturer: Molex; Manufacturer Part Number: C780054; Plating: Tin; Max Voltage Rating (DC): 250.25kV; Current Rating: 3A; Voltage Rating: 250V; Number of Positions: 6; Gender: Male; Number of Circuits: 4; Glow Wire Compliant: Non-compliant; Supplier 1: Digikey; RoHS: Yes; Category: Headers and Wire Housings; Stock 1: 16474; Pricing 1: 1=0.52, 10=0.445, 100=0.3781, 500=0.33748, 3000=0.29738, 6000=0.28319, 12000=0.26968 (USD); Mount: Surface Mount; Contact Plating: Gold; Contact Material: Bronze; Housing Color: Black; Material: Bronze; Housing Material: Thermoplastic; Min Operating Temperature: -40°C; Max Operating Temperature: 105°C; Number of Rows: 2; Package Quantity: 3000; Contact Gender: Male; Packaging: Bulk; Termination: SMD/SMT; Number of Contacts: 6; Orientation: Straight; Voltage Rating (DC): 250V; Series: 71308; Pitch: 2.54mm; Row Spacing: 2.54mm; ELV: Compliant; Halogen Free: Low Halogen; Lead Free: Lead Free; Flammability Rating: UL94 V-0; RoHS Compliant: Yes; Reach SVHC Compliant: Unknown; ComponentLink1URL: https://datasheet.octopart.com/15-91-0060-Molex-datasheet-164461481.pdf?src-supplier=Sager+Electronics; ComponentLink1Description: https://datasheet.octopart.com/15-91-0060-Molex-datasheet-164461481.pdf?src-supplier=Sager+Electronics; ComponentLink2URL: https://datasheet.octopart.com/15-91-0060-Molex-datasheet-154743765.pdf?src-supplier=Master+Electronics; ComponentLink2Description: https://datasheet.octopart.com/15-91-0060-Molex-datasheet-154743765.pdf?src-supplier=Master+Electronics; Supplier Part Number 1: WM17457-ND
footprint HEADER6PIN2.54
pins: A1, A2, A3, B1, B2, B3

## HEADER_10
designator J?
MP: 10129378-910002BLF; Package: None; Price: None; Value: *; Availability: Unavailable
footprint AMPHENOL_10129378-910002BLF
pins: 1, 2, 3, 4, 5, 6, 7, 8, 9, 10

## HEADER_40PIN_SMD
designator J?  (value not drawn)
Conn Unshrouded Header HDR 40 POS 2.54mm Solder ST Top Entry SMD Bulk; Manufacturer: Amphenol ICC / FCI; Manufacturer Part Number: C6332245; Current Rating: 3A; Voltage Rating: 1.5kV; Number of Positions: 40; Insulation Resistance: 5GR; Gender: Male; Row Spacing: 0.1inch; Contact Post Length: 4.7mm; Supplier 1: Digikey; RoHS: Yes; Category: Headers and Wire Housings; Stock 1: 2650; Pricing 1: 1=1.53, 10=1.296, 100=1.1013, 600=0.97043, 1200=0.92412, 5400=0.83112, 10200=0.79469 (USD); Mount: Surface Mount; Contact Plating: Tin,Gold; Contact Material: Bronze; Color: Black; Housing Color: Black; Housing Material: Thermoplastic; Min Operating Temperature: -65°C; Max Operating Temperature: 125°C; Number of Rows: 2; Contact Gender: Male; Termination: Solder; Number of Contacts: 40; Max Voltage Rating (AC): 1.5kV; Orientation: Straight; Package Quantity: 100; Packaging: Bulk; Series: BERGSTIK® II, MezzSelect™, Basics+; Contact Type: Male Pin; Length: 50.8mm; Pitch: 2.54mm; Contact Mating Length: 0.23inch; Depth: 4.83mm; Reach SVHC Compliant: No; Flammability Rating: UL94 V-0; ComponentLink1URL: https://datasheet.ciiva.com/726/95157-726825.pdf?src-supplier=Digikey; ComponentLink1Description: https://datasheet.ciiva.com/726/95157-726825.pdf?src-supplier=Digikey; ComponentLink2URL: https://datasheet.ciiva.com/10113/95157-10113738.pdf?src-supplier=Avnet; ComponentLink2Description: https://datasheet.ciiva.com/10113/95157-10113738.pdf?src-supplier=Avnet; ComponentLink3URL: https://datasheet.ciiva.com/5155/95157-101776-5155834.pdf?src-supplier=Mouser; ComponentLink3Description: https://datasheet.ciiva.com/5155/95157-101776-5155834.pdf?src-supplier=Mouser; Supplier Part Number 1: 609-3124-ND
footprint AMPHENOL_95157-440LF
pins: B1, B2, B3, B4, B5, B6, B7, B8, B9, B10, B11, B12, B13, B14, B15, B16, B17, B18, B19, B20, C1, C2, C3, C4, C5, C6, C7, C8, C9, C10, C11, C12, C13, C14, C15, C16, C17, C18, C19, C20

## IND2n2
designator L?
Inductor with Inductance: 2.2nH Tol. +/-0.1nH, Package: 0402 (1005); Manufacturer Part Number: C2041833; MF: Murata Electronics; MP: LQW15AN2N2B80D; Package: 1006 Murata; Check_prices: https://www.snapeda.com/parts/LQW15AN2N2B80D/Murata%20Electronics%20North%20America/view-part/1522880/?ref=eda; Availability: Good; Value: *; Purchase-URL: https://pricing.snapeda.com/search/part/LQW15AN2N2B80D/?ref=eda; Price: None; SnapEDA_Link: https://www.snapeda.com/parts/LQW15AN2N2B80D/Murata%20Electronics%20North%20America/view-part/1522880/?ref=snap
footprint INDC1006X60N
pins: 1, 2

## JumpA
designator T?
footprint JumpA
pins: 1, 2

## LED
designator D?, comment SMD-LED-YELLOW-WHITE(0603)  (value not drawn)
SMD LED Yellow-White; MF: Chengguangxing; MP: ADL-0603W; SnapEDA_Link: https://www.snapeda.com/parts/ADL-0603W/Chengguangxing/view-part/106378/?ref=snap; Availability: Unavailable; Value: *; Price: None; Package: None
footprint LED-0603
pins: 1, 2

## LQG18HN2N2S00D
designator L?  (value not drawn)
Inductor RF Chip Multi-Layer 2.2nH 0.3nH 100MHz 12Q-Factor Air 500mA 100mOhm DCR 0603 Paper T/R; Manufacturer: Murata; Q Factor: 12; Shielding: Unshielded; Self Resonant Frequency: 6GHz; DC Resistance (DCR): 100mR; RMS Current (Irms): 1.1A; Supplier 1: Digikey; Manufacturer Part Number: LQG18HN2N2S00D; RoHS: Yes; Category: Fixed Inductors; Stock 1: 7871; Pricing 1: 1=0.14, 10=0.114, 100=0.094, 1000=0.07733 (USD); Mount: Surface Mount; Case/Package: 0603; Number of Pins: 2; Core Material: Air; Case Code (Metric): 1608; Case Code (Imperial): 0603; Min Operating Temperature: -40°C; Max Operating Temperature: 85°C; Packaging: Tape and Reel; Package Quantity: 1; Current Rating: 500mA; Inductance: 2.2nH; Test Frequency: 100MHz; Max DC Current: 500mA; Termination: SMD/SMT; DC Current: 500mA; Series: LQG18H; Series Resistance: 100mR; Length: 0.063inch; Width: 0.031inch; Height: 0.8mm; Height - Seated (Max): 0.037inch; Depth: 0.95mm; Reach SVHC Compliant: No; Military Standard: Not; Lead Free: Lead Free; RoHS Compliant: Yes; ComponentLink1URL: https://datasheet.ciiva.com/5740/5102-5740800.pdf?src-supplier=Farnell; ComponentLink1Description: https://datasheet.ciiva.com/5740/5102-5740800.pdf?src-supplier=Farnell; ComponentLink2URL: https://datasheet.ciiva.com/11801/0900766b80f1087c-11801452.pdf?src-supplier=Rs; ComponentLink2Description: https://datasheet.ciiva.com/11801/0900766b80f1087c-11801452.pdf?src-supplier=Rs; ComponentLink3URL: https://datasheet.ciiva.com/1040/l0075s0083lqg18h-1040339.pdf?src-supplier=Digikey; ComponentLink3Description: https://datasheet.ciiva.com/1040/l0075s0083lqg18h-1040339.pdf?src-supplier=Digikey; ComponentLink4URL: https://datasheet.ciiva.com/1040/l0075s0083lqg18h-1040340.pdf?src-supplier=Digikey; ComponentLink4Description: https://datasheet.ciiva.com/1040/l0075s0083lqg18h-1040340.pdf?src-supplier=Digikey; ComponentLink5URL: https://datasheet.ciiva.com/1040/l0075s0083lqg18h-1040341.pdf?src-supplier=Digikey; ComponentLink5Description: https://datasheet.ciiva.com/1040/l0075s0083lqg18h-1040341.pdf?src-supplier=Digikey; ComponentLink6URL: https://datasheet.ciiva.com/5740/5102-5740799.pdf?src-supplier=Farnell; ComponentLink6Description: https://datasheet.ciiva.com/5740/5102-5740799.pdf?src-supplier=Farnell; ComponentLink7URL: https://datasheet.ciiva.com/8002/5102-8002583.pdf?src-supplier=Element14; ComponentLink7Description: https://datasheet.ciiva.com/8002/5102-8002583.pdf?src-supplier=Element14; ComponentLink8URL: https://datasheet.ciiva.com/8002/5102-8002585.pdf?src-supplier=Element14; ComponentLink8Description: https://datasheet.ciiva.com/8002/5102-8002585.pdf?src-supplier=Element14; Supplier Part Number 1: 490-1102-1-ND
footprint INDC1608X95N
pins: 1, 2

## LQW15AN2N2B80D
designator L?
Inductor with Inductance: 2.2nH Tol. +/-0.1nH, Package: 0402 (1005); MF: Murata Electronics; MP: LQW15AN2N2B80D; Package: 1006 Murata; Check_prices: https://www.snapeda.com/parts/LQW15AN2N2B80D/Murata%20Electronics%20North%20America/view-part/1522880/?ref=eda; Availability: Good; Value: *; Purchase-URL: https://pricing.snapeda.com/search/part/LQW15AN2N2B80D/?ref=eda; Price: None; SnapEDA_Link: https://www.snapeda.com/parts/LQW15AN2N2B80D/Murata%20Electronics%20North%20America/view-part/1522880/?ref=snap
footprint INDC1006X60N
pins: 1, 2

## LTST-C190KFKT
designator D?, comment LED  (value not drawn)
Single Color LED, Ultra Bright Orange, Water Clear, 1.1mm; Manufacturer: Vishay Lite-On; Manufacturer Part Number: LTST-C190KFKT; Lens Color: Colorless; Power Rating: 75mW; Luminous Intensity: 90mcd; Viewing Angle: 130°; Forward Current: 30mA; Forward Voltage: 2V; Lens Style: Flat,Diffused,Colorless,Rectangular,Clear; Dominant Wavelength: 605nm; Test Current: 20mA; Number of Elements: 1; Reverse Voltage: 5V; Voltage Rating: 50V; Resistance: 47kR; Tolerance: 1%; Lens Size: 0.8mm; Supplier 1: Digikey; RoHS: Yes; Category: LEDs; Stock 1: 96032; Pricing 1: 1=0.13, 10=0.089, 100=0.0613, 500=0.0484, 1000=0.0441, 2000=0.04042 (USD); Mount: Surface Mount; Case/Package: 0603; Number of Pins: 2; Color: Orange; Case Code (Metric): 1608; Case Code (Imperial): 0603; Min Operating Temperature: -55°C; Max Operating Temperature: 85°C; Packaging: Tape and Reel; Package Quantity: 3000; Illumination Color: Orange; Lens Transparency: Clear; Power Dissipation: 75mW; Wavelength: 605nm; Number of LEDs: 1; Series: -; Voltage Rating (DC): 50V; Length: 3.2mm; Width: 0.8mm; Height: 0.9mm; Depth: 1.6mm; Radiation Hardening: No; Lead Free: Lead Free; RoHS Compliant: Yes; Reach SVHC Compliant: 4186SVHC; ComponentLink1URL: https://datasheet.ciiva.com/11774/0900766b80dc02a7-11774744.pdf?src-supplier=Rs; ComponentLink1Description: https://datasheet.ciiva.com/11774/0900766b80dc02a7-11774744.pdf?src-supplier=Rs; ComponentLink2URL: https://datasheet.ciiva.com/15201/getdatasheetpartid-309341-15201388.pdf?src-supplier=Verical; ComponentLink2Description: https://datasheet.ciiva.com/15201/getdatasheetpartid-309341-15201388.pdf?src-supplier=Verical; ComponentLink3URL: https://datasheet.ciiva.com/16396/lite-on20ltst-c190kfkt-16396246.pdf?src-supplier=Future+Electronics; ComponentLink3Description: https://datasheet.ciiva.com/16396/lite-on20ltst-c190kfkt-16396246.pdf?src-supplier=Future+Electronics; ComponentLink4URL: https://datasheet.ciiva.com/12400/100-ltst-c190kfkt-53640-12400769.pdf?src-supplier=Mouser; ComponentLink4Description: https://datasheet.ciiva.com/12400/100-ltst-c190kfkt-53640-12400769.pdf?src-supplier=Mouser; ComponentLink5URL: https://datasheet.ciiva.com/2109/s-110-ltst-c190kfkt-2109976.pdf?src-supplier=Digikey; ComponentLink5Description: https://datasheet.ciiva.com/2109/s-110-ltst-c190kfkt-2109976.pdf?src-supplier=Digikey; ComponentLink6URL: https://datasheet.ciiva.com/2109/s-110-ltst-c190kfkt-2109977.pdf?src-supplier=Digikey; ComponentLink6Description: https://datasheet.ciiva.com/2109/s-110-ltst-c190kfkt-2109977.pdf?src-supplier=Digikey; ComponentLink7URL: https://datasheet.ciiva.com/2109/s-110-ltst-c190kfkt-2109978.pdf?src-supplier=Digikey; ComponentLink7Description: https://datasheet.ciiva.com/2109/s-110-ltst-c190kfkt-2109978.pdf?src-supplier=Digikey; Supplier Part Number 1: 160-1434-1-ND
footprint LEDM1608X80
pins: A, C

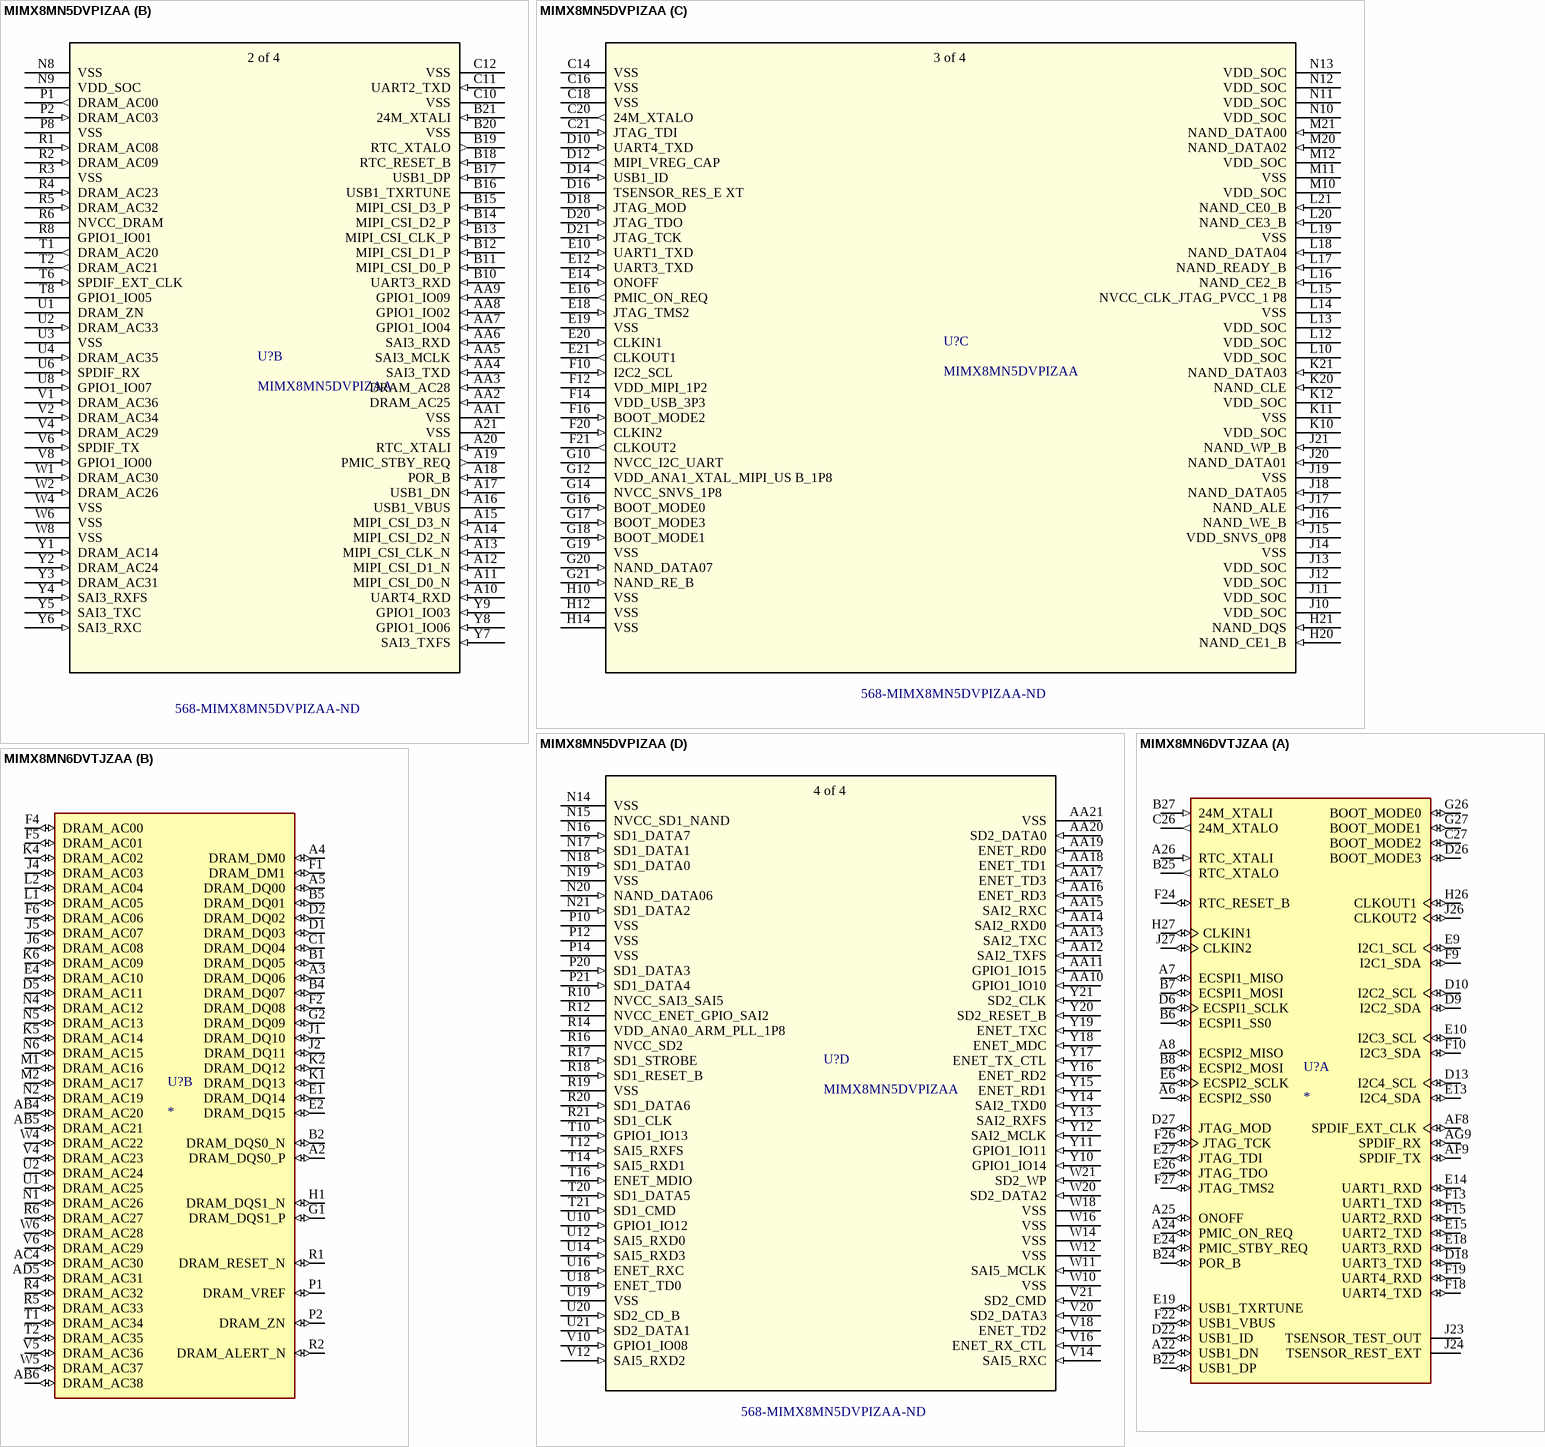
[diagram p1: symbols MIMX8MN5DVPIZAA to MIMX8MN6DVTJZAA]

## MIMX8MN5DVPIZAA
designator U?  Supplier Part Number 1: 568-MIMX8MN5DVPIZAA-ND
I.mx 8M Nano Ultralite, Tray Multiple Dp Bakeable, Tray Rohs Compliant: Yes; Manufacturer: NXP Semiconductors; Supplier 1: Digikey; Manufacturer Part Number: MIMX8MN5DVPIZAA; RoHS: Yes; Category: Microprocessors; Stock 1: 138; Pricing 1: 1=24.94, 10=20.041, 25=18.818, 168=17.09119, 336=16.65952, 504=16.44345 (USD)
footprint MIMX8MN5DVPIZAA_NXP
part A pins: A1 VSS (power), A2 DRAM_DQ01 (in), A3 DRAM_DQ02 (in), A4 ECSPI2_SCLK (in), A5 ECSPI2_SS0 (in), A6 ECSPI2_MOSI (in), A7 I2C1_SDA (in), A8 I2C4_SDA (in), A9 UART1_RXD (in), B1 DRAM_DQS0_P (in), B2 DRAM_DM0 (in), B3 DRAM_DQ00 (in), B4 DRAM_DQ03 (in), B5 ECSPI2_MISO (in), B6 ECSPI1_SS0 (in), B7 I2C1_SCL (in), B8 I2C4_SCL (in), B9 UART2_RXD (in), C1 DRAM_DQ06 (in), C2 DRAM_DQS0_N (in), C4 VSS (power), C6 VSS (power), C8 VSS (power), D1 DRAM_DQ05 (in), D2 DRAM_DQ07 (in), D4 DRAM_AC06 (in), D6 ECSPI1_MISO (in), D8 I2C2_SDA (in), E1 DRAM_DQ15 (in), E2 DRAM_DQ04 (in), E3 VSS (power), E4 DRAM_AC07 (in), E6 ECSPI1_SCLK (in), E8 I2C3_SDA (in), F1 DRAM_DQS1_N (in), F2 DRAM_DQ14 (in), F6 ECSPI1_MOSI (in), F8 I2C3_SCL (in), G1 DRAM_DQ08 (in), G2 DRAM_DQS1_P (in), G3 VSS (power), G4 DRAM_AC05 (in), G5 DRAM_AC04 (in), G6 NVCC_DRAM (power), G8 NVCC_ECSPI (power), H1 DRAM_DQ09 (in), H2 DRAM_DM1 (in), H8 VSS (power), J1 DRAM_DQ10 (in), J2 DRAM_DQ11 (in), J3 VSS (power), J4 DRAM_AC16 (in), J5 DRAM_AC17 (in), J6 NVCC_DRAM (power), J7 NVCC_DRAM (power), J8 VSS (power), J9 VDD_SOC (power), K1 DRAM_DQ12 (in), K2 DRAM_DQ13 (in), L1 DRAM_AC12 (in), L2 DRAM_AC11 (in), L3 VSS (power), L4 DRAM_VREF, L5 DRAM_AC15 (in), L6 NVCC_DRAM (power), L7 VDD_DRAM_PLL_1P8 (power), L8 VSS (power), L9 VDD_SOC (power), M1 DRAM_AC13 (in), M2 DRAM_AC10 (in), N1 DRAM_AC01 (out), N2 DRAM_AC02 (in), N3 VSS (power), N4 DRAM_RESET_N (out), N5 DRAM_ALERT_N (in), N6 NVCC_DRAM (power), N7 NVCC_DRAM (power)
part B pins: A10 UART4_RXD (in), A11 MIPI_CSI_D0_N (in), A12 MIPI_CSI_D1_N (in), A13 MIPI_CSI_CLK_N (in), A14 MIPI_CSI_D2_N (in), A15 MIPI_CSI_D3_N (in), A16 USB1_VBUS, A17 USB1_DN (in), A18 POR_B (in), A19 PMIC_STBY_REQ (out), A20 RTC_XTALI (in), A21 VSS (power), AA1 VSS (power), AA2 DRAM_AC25 (in), AA3 DRAM_AC28 (in), AA4 SAI3_TXD (in), AA5 SAI3_MCLK (in), AA6 SAI3_RXD (in), AA7 GPIO1_IO04 (in), AA8 GPIO1_IO02 (in), AA9 GPIO1_IO09 (in), B10 UART3_RXD (in), B11 MIPI_CSI_D0_P (in), B12 MIPI_CSI_D1_P (in), B13 MIPI_CSI_CLK_P (in), B14 MIPI_CSI_D2_P (in), B15 MIPI_CSI_D3_P (in), B16 USB1_TXRTUNE, B17 USB1_DP (in), B18 RTC_RESET_B (in), B19 RTC_XTALO (out), B20 VSS (power), B21 24M_XTALI (in), C10 VSS (power), C11 UART2_TXD (in), C12 VSS (power), N8 VSS (power), N9 VDD_SOC (power), P1 DRAM_AC00 (out), P2 DRAM_AC03 (in), P8 VSS (power), R1 DRAM_AC08 (in), R2 DRAM_AC09 (in), R3 VSS (power), R4 DRAM_AC23 (in), R5 DRAM_AC32 (in), R6 NVCC_DRAM (power), R8 GPIO1_IO01, T1 DRAM_AC20 (out), T2 DRAM_AC21 (out), T6 SPDIF_EXT_CLK (in), T8 GPIO1_IO05, U1 DRAM_ZN, U2 DRAM_AC33 (in), U3 VSS (power), U4 DRAM_AC35 (in), U6 SPDIF_RX (in), U8 GPIO1_IO07 (in), V1 DRAM_AC36 (in), V2 DRAM_AC34 (in), V4 DRAM_AC29 (in), V6 SPDIF_TX (in), V8 GPIO1_IO00 (in), W1 DRAM_AC30 (in), W2 DRAM_AC26 (in), W4 VSS (power), W6 VSS (power), W8 VSS (power), Y1 DRAM_AC14 (in), Y2 DRAM_AC24 (in), Y3 DRAM_AC31 (in), Y4 SAI3_RXFS (in), Y5 SAI3_TXC (in), Y6 SAI3_RXC (in), Y7 SAI3_TXFS (in), Y8 GPIO1_IO06 (in), Y9 GPIO1_IO03 (in)
part C pins: C14 VSS (power), C16 VSS (power), C18 VSS (power), C20 24M_XTALO (out), C21 JTAG_TDI (in), D10 UART4_TXD (in), D12 MIPI_VREG_CAP (out), D14 USB1_ID (in), D16 TSENSOR_RES_E XT, D18 JTAG_MOD (in), D20 JTAG_TDO (in), D21 JTAG_TCK (in), E10 UART1_TXD (in), E12 UART3_TXD (in), E14 ONOFF (in), E16 PMIC_ON_REQ (out), E18 JTAG_TMS2 (in), E19 VSS (power), E20 CLKIN1 (in), E21 CLKOUT1 (out), F10 I2C2_SCL (in), F12 VDD_MIPI_1P2 (power), F14 VDD_USB_3P3 (power), F16 BOOT_MODE2 (in), F20 CLKIN2 (in), F21 CLKOUT2 (out), G10 NVCC_I2C_UART (power), G12 VDD_ANA1_XTAL_MIPI_US B_1P8 (power), G14 NVCC_SNVS_1P8 (power), G16 BOOT_MODE0 (in), G17 BOOT_MODE3 (in), G18 BOOT_MODE1 (in), G19 VSS (power), G20 NAND_DATA07 (in), G21 NAND_RE_B (in), H10 VSS (power), H12 VSS (power), H14 VSS (power), H20 NAND_CE1_B (in), H21 NAND_DQS (in), J10 VDD_SOC (power), J11 VDD_SOC (power), J12 VDD_SOC (power), J13 VDD_SOC (power), J14 VSS (power), J15 VDD_SNVS_0P8 (power), J16 NAND_WE_B (in), J17 NAND_ALE (in), J18 NAND_DATA05 (in), J19 VSS (power), J20 NAND_DATA01 (in), J21 NAND_WP_B (in), K10 VDD_SOC (power), K11 VSS (power), K12 VDD_SOC (power), K20 NAND_CLE (in), K21 NAND_DATA03 (in), L10 VDD_SOC (power), L12 VDD_SOC (power), L13 VDD_SOC (power), L14 VSS (power), L15 NVCC_CLK_JTAG_PVCC_1 P8 (power), L16 NAND_CE2_B (in), L17 NAND_READY_B (in), L18 NAND_DATA04 (in), L19 VSS (power), L20 NAND_CE3_B (in), L21 NAND_CE0_B (in), M10 VDD_SOC (power), M11 VSS (power), M12 VDD_SOC (power), M20 NAND_DATA02 (in), M21 NAND_DATA00 (in), N10 VDD_SOC (power), N11 VDD_SOC (power), N12 VDD_SOC (power), N13 VDD_SOC (power)
part D pins: AA10 GPIO1_IO10 (in), AA11 GPIO1_IO15 (in), AA12 SAI2_TXFS (in), AA13 SAI2_TXC (in), AA14 SAI2_RXD0 (in), AA15 SAI2_RXC (in), AA16 ENET_RD3 (in), AA17 ENET_TD3 (in), AA18 ENET_TD1 (in), AA19 ENET_RD0 (in), AA20 SD2_DATA0 (in), AA21 VSS (power), N14 VSS (power), N15 NVCC_SD1_NAND (power), N16 SD1_DATA7 (in), N17 SD1_DATA1 (in), N18 SD1_DATA0 (in), N19 VSS (power), N20 NAND_DATA06 (in), N21 SD1_DATA2 (in), P10 VSS (power), P12 VSS (power), P14 VSS (power), P20 SD1_DATA3 (in), P21 SD1_DATA4 (in), R10 NVCC_SAI3_SAI5 (power), R12 NVCC_ENET_GPIO_SAI2 (power), R14 VDD_ANA0_ARM_PLL_1P8 (power), R16 NVCC_SD2 (power), R17 SD1_STROBE (in), R18 SD1_RESET_B (in), R19 VSS (power), R20 SD1_DATA6 (in), R21 SD1_CLK (in), T10 GPIO1_IO13 (in), T12 SAI5_RXFS (in), T14 SAI5_RXD1 (in), T16 ENET_MDIO (in), T20 SD1_DATA5 (in), T21 SD1_CMD (in), U10 GPIO1_IO12 (in), U12 SAI5_RXD0 (in), U14 SAI5_RXD3 (in), U16 ENET_RXC (in), U18 ENET_TD0 (in), U19 VSS (power), U20 SD2_CD_B (in), U21 SD2_DATA1 (in), V10 GPIO1_IO08 (in), V12 SAI5_RXD2 (in), V14 SAI5_RXC (in), V16 ENET_RX_CTL (in), V18 ENET_TD2 (in), V20 SD2_DATA3 (in), V21 SD2_CMD (in), W10 VSS (power), W11 SAI5_MCLK (in), W12 VSS (power), W14 VSS (power), W16 VSS (power), W18 VSS (power), W20 SD2_DATA2 (in), W21 SD2_WP (in), Y10 GPIO1_IO14 (in), Y11 GPIO1_IO11 (in), Y12 SAI2_MCLK (in), Y13 SAI2_RXFS (in), Y14 SAI2_TXD0 (in), Y15 ENET_RD1 (in), Y16 ENET_RD2 (in), Y17 ENET_TX_CTL (in), Y18 ENET_MDC (in), Y19 ENET_TXC (in), Y20 SD2_RESET_B (in), Y21 SD2_CLK (in)
part A text: 1 of 4
part B text: 2 of 4
part C text: 3 of 4
part D text: 4 of 4

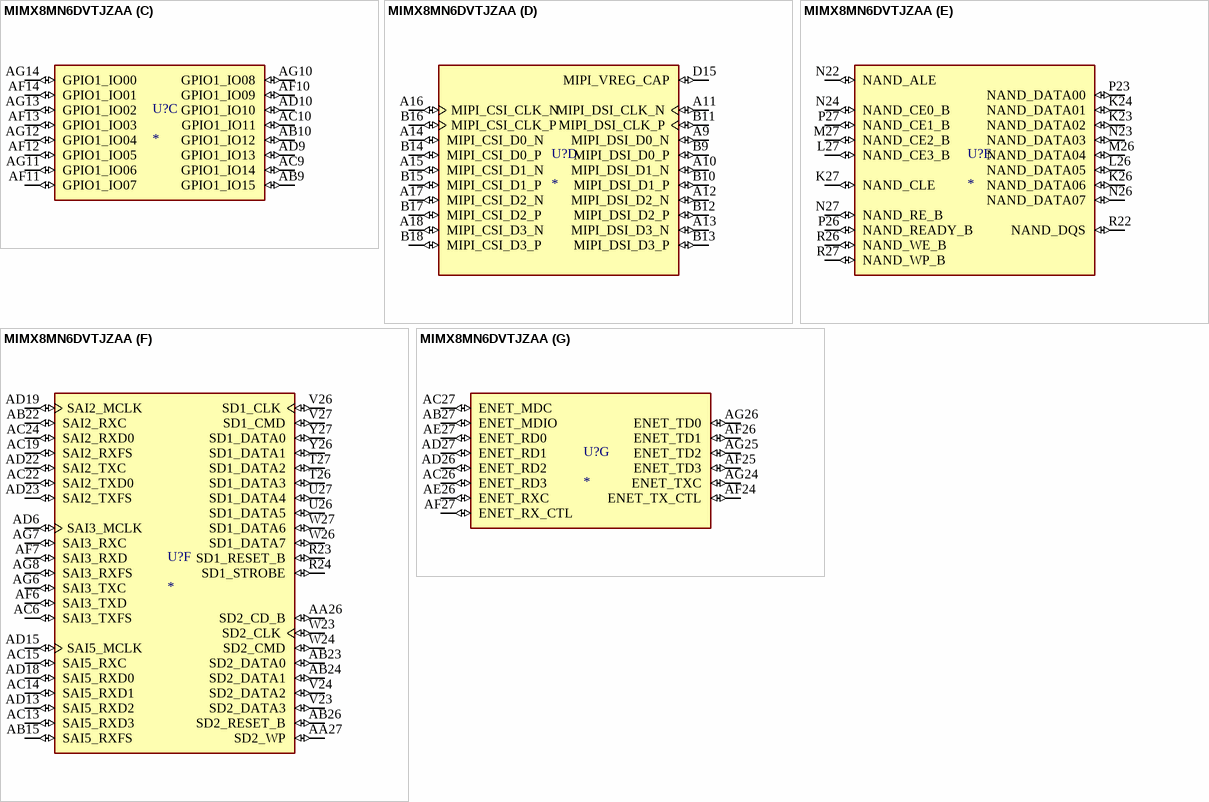
[diagram p2: symbol MIMX8MN6DVTJZAA]

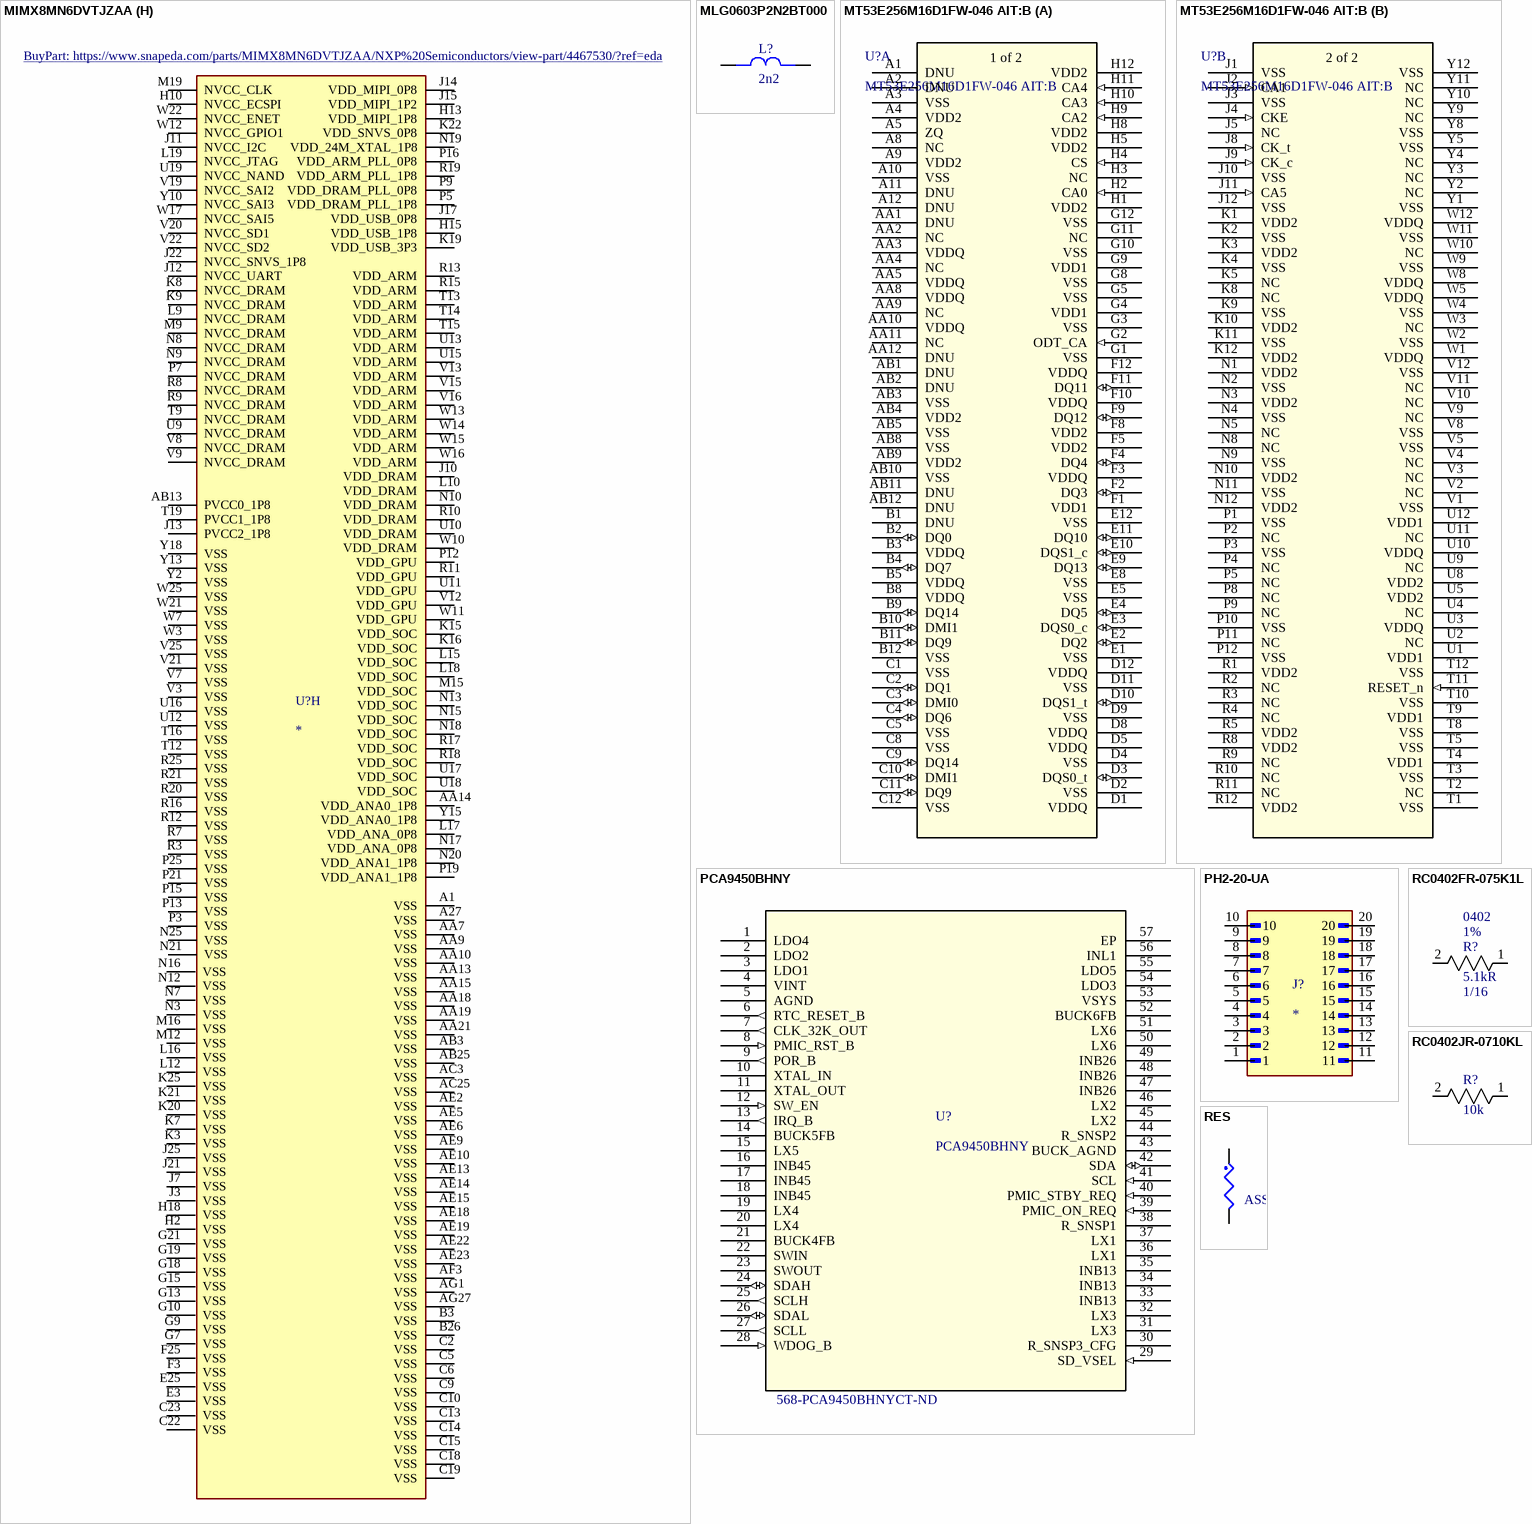
[diagram p3: symbols MIMX8MN6DVTJZAA to RES]